# Altium footprint library DF-S.PcbLib: 1 footprints
Each footprint in its own frame and in the unit in brackets; x right, y up, seen from the top. Pads: shape width x height; smd on the part's side, far side on the other; paste and mask are expansions set on the pad; w line width, h text height; cw(c..) or ccw(c..) is an arc to the next point about the centre after c.
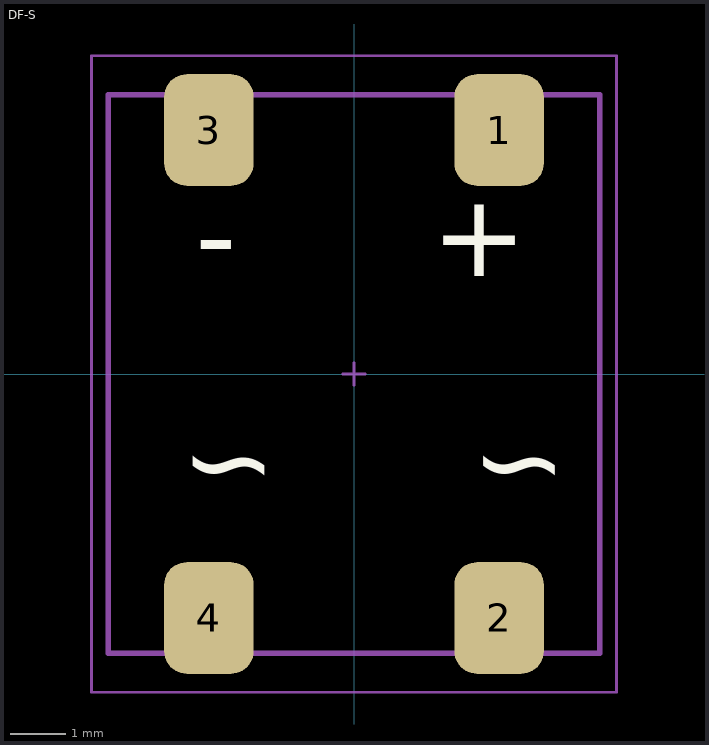
[diagram p0: the footprint, top view; thin cyan lines are the x and y axes]

## DF-S [mm]
pads (4):
  rrect50% 1.6x2 smd mask+0.05: 1(2.6,4.37) 2(2.6,-4.37) 3(-2.6,4.37) 4(-2.6,-4.37)
Top Overlay:
  text "+" at 3.1,1.75 h1.5
  text "-" at -2.1,1.75 h1.5
  text "~" at -3.1,-1 h1.5
  text "~" at 2.1,-1 h1.5
Top Assembly:
  lines w0.1: -4.4,-5 -4.4,5 4.4,5 4.4,-5 -4.4,-5
Top Courtyard:
  lines w0.05: -0.2,0 0.2,0 ; 0,-0.2 0,0.2 ; -4.7,-5.7 -4.7,5.7 4.7,5.7 4.7,-5.7 -4.7,-5.7
3D body "User Library-Bridge rectifier DFS package-1.step": height 3.02, standoff 0, extent -4.4,-4.985 4.4,4.985